# Altium schematic symbol library G13.SchLib: 1 symbol
Pins are listed as number, name and electrical type; pins without a type are passive.

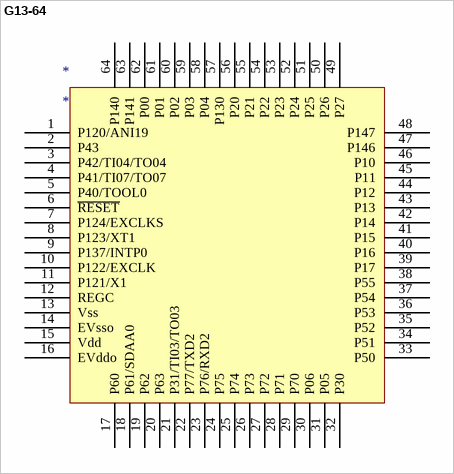
[diagram p0: symbol G13-64]

## G13-64
designator *
pins: 1 P120/ANI19, 2 P43, 3 P42/TI04/TO04, 4 P41/TI07/TO07, 5 P40/TOOL0, 6 ~{RESET}, 7 P124/EXCLKS, 8 P123/XT1, 9 P137/INTP0, 10 P122/EXCLK, 11 P121/X1, 12 REGC, 13 Vss, 14 EVsso, 15 Vdd, 16 EVddo, 17 P60, 18 P61/SDAA0, 19 P62, 20 P63, 21 P31/TI03/TO03, 22 P77/TXD2, 23 P76/RXD2, 24 P75, 25 P74, 26 P73, 27 P72, 28 P71, 29 P70, 30 P06, 31 P05, 32 P30, 33 P50, 34 P51, 35 P52, 36 P53, 37 P54, 38 P55, 39 P17, 40 P16, 41 P15, 42 P14, 43 P13, 44 P12, 45 P11, 46 P10, 47 P146, 48 P147, 49 P27, 50 P26, 51 P25, 52 P24, 53 P23, 54 P22, 55 P21, 56 P20, 57 P130, 58 P04, 59 P03, 60 P02, 61 P01, 62 P00, 63 P141, 64 P140